# Altium schematic symbol library TPA3255DDV.SchLib: 1 symbol
Pins are listed as number, name and electrical type; pins without a type are passive.

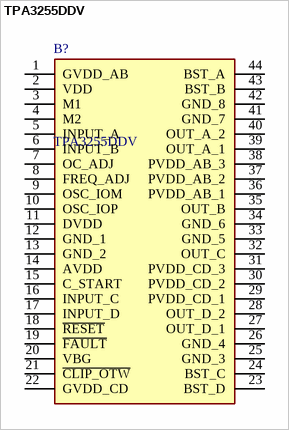
[diagram p0: symbol TPA3255DDV]

## TPA3255DDV
designator B?
Audio Amplifiers 325-W Stereo High-Performance, High-Definition, Class-D Amplifier 44-HTSSOP 0 to 70; Manufacturer_Name: Texas Instruments; Geometry.Height: 1.2mm; Mouser Part Number: 595-TPA3255DDV; Mouser Price/Stock: https://www.mouser.co.uk/ProductDetail/Texas-Instruments/TPA3255DDV?qs=KuuZdrM3jLyQC3GnfUDTEw%3D%3D; Manufacturer_Part_Number: TPA3255DDV; Datasheet Link: https://datasheet.datasheetarchive.com/originals/distributors/DKDS-23/444296.pdf
footprint SOP64P810X120-44N
pins: 1 GVDD_AB (power), 2 VDD (power), 3 M1, 4 M2, 5 INPUT_A, 6 INPUT_B, 7 OC_ADJ, 8 FREQ_ADJ, 9 OSC_IOM, 10 OSC_IOP, 11 DVDD (power), 12 GND_1, 13 GND_2, 14 AVDD (power), 15 C_START, 16 INPUT_C, 17 INPUT_D, 18 ~{RESET}, 19 ~{FAULT}, 20 VBG, 21 ~{CLIP_OTW}, 22 GVDD_CD (power), 23 BST_D, 24 BST_C, 25 GND_3, 26 GND_4, 27 OUT_D_1, 28 OUT_D_2, 29 PVDD_CD_1 (power), 30 PVDD_CD_2 (power), 31 PVDD_CD_3 (power), 32 OUT_C, 33 GND_5, 34 GND_6, 35 OUT_B, 36 PVDD_AB_1 (power), 37 PVDD_AB_2 (power), 38 PVDD_AB_3 (power), 39 OUT_A_1, 40 OUT_A_2, 41 GND_7, 42 GND_8, 43 BST_B, 44 BST_A